# Altium schematic symbol library 4.7uF电解电容.SchLib: 1 symbol
Pins are listed as number, name and electrical type; pins without a type are passive.

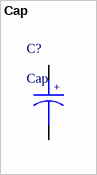
[diagram p0: symbol Cap]

## Cap
designator C?
footprint CD-2.2mm
pins: 1, 2
text: +